# Altium schematic symbol library WE-LQFS.SchLib: 33 symbols
Pins are listed as number, name and electrical type; pins without a type are passive.

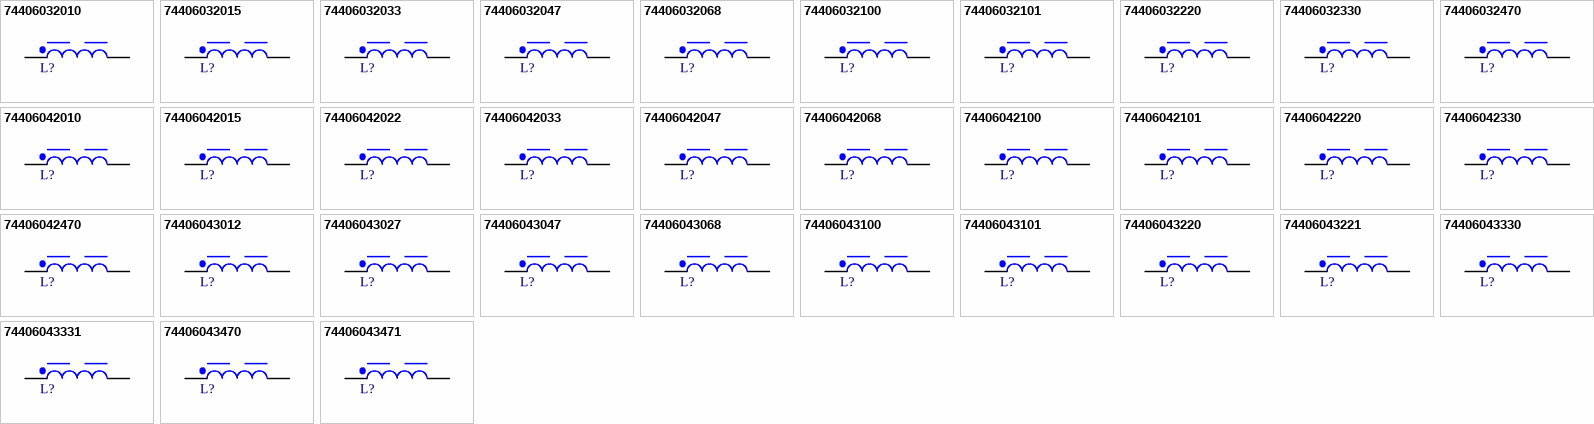
[diagram p0: symbols 74406032010 to 74406043471]

## 74406032010
designator L?, comment 1µH, 2.5A  (value not drawn)
WE-LQFS SMT Power Inductor, size 3818, 1µH, 2.5A, 31mΩ; Manufacturer Part Number: 74406032010; Manufacturer: Wurth Elektronik; Case/Size Code: 3818; DC Resistance: 26mΩ; Saturation Current: 2.15A; Self Resonant Frequency: 264MHz; Category: Shielded Power Inductors; Match Code: WE-LQFS; ComponentLink1Description: Website Link; ComponentLink1URL: https://www.we-online.com/redexpert/article/74406032010?ad; ComponentLink2Description: Datasheet Link; ComponentLink2URL: https://www.we-online.com/redexpert/spec/74406032010?ad; Mount: Surface Mount; Operating Temperature Max: 125°C; Operating Temperature Min: -40°C; Packaging: Tape and Reel; Length: 3.8mm; Width: 3.8mm; Height: 1.8mm; DC Resistance Max: 31mΩ; Inductance: 1µH; Rated Current: 2.5A
footprint WE-LQFS_3818
simulation model 3818_74406032010_1u
pins: 1, 2

## 74406032015
designator L?, comment 1.5µH, 2.25A  (value not drawn)
WE-LQFS SMT Power Inductor, size 3818, 1.5µH, 2.25A, 39mΩ; Manufacturer Part Number: 74406032015; Manufacturer: Wurth Elektronik; Case/Size Code: 3818; DC Resistance: 32mΩ; Saturation Current: 1.92A; Self Resonant Frequency: 215MHz; Category: Shielded Power Inductors; Match Code: WE-LQFS; ComponentLink1Description: Website Link; ComponentLink1URL: https://www.we-online.com/redexpert/article/74406032015?ad; ComponentLink2Description: Datasheet Link; ComponentLink2URL: https://www.we-online.com/redexpert/spec/74406032015?ad; Mount: Surface Mount; Operating Temperature Max: 125°C; Operating Temperature Min: -40°C; Packaging: Tape and Reel; Length: 3.8mm; Width: 3.8mm; Height: 1.8mm; DC Resistance Max: 39mΩ; Inductance: 1.5µH; Rated Current: 2.25A
footprint WE-LQFS_3818
simulation model 3818_74406032015_1.5u
pins: 1, 2

## 74406032033
designator L?, comment 3.3µH, 1.59A  (value not drawn)
WE-LQFS SMT Power Inductor, size 3818, 3.3µH, 1.59A, 77mΩ; Manufacturer Part Number: 74406032033; Manufacturer: Wurth Elektronik; Case/Size Code: 3818; DC Resistance: 64mΩ; Saturation Current: 1.31A; Self Resonant Frequency: 132MHz; Category: Shielded Power Inductors; Match Code: WE-LQFS; ComponentLink1Description: Website Link; ComponentLink1URL: https://www.we-online.com/redexpert/article/74406032033?ad; ComponentLink2Description: Datasheet Link; ComponentLink2URL: https://www.we-online.com/redexpert/spec/74406032033?ad; Mount: Surface Mount; Operating Temperature Max: 125°C; Operating Temperature Min: -40°C; Packaging: Tape and Reel; Length: 3.8mm; Width: 3.8mm; Height: 1.8mm; DC Resistance Max: 77mΩ; Inductance: 3.3µH; Rated Current: 1.59A
footprint WE-LQFS_3818
simulation model 3818_74406032033_3.3u
pins: 1, 2

## 74406032047
designator L?, comment 4.7µH, 1.36A  (value not drawn)
WE-LQFS SMT Power Inductor, size 3818, 4.7µH, 1.36A, 110mΩ; Manufacturer Part Number: 74406032047; Manufacturer: Wurth Elektronik; Case/Size Code: 3818; DC Resistance: 92mΩ; Saturation Current: 1.07A; Self Resonant Frequency: 99MHz; Category: Shielded Power Inductors; Match Code: WE-LQFS; ComponentLink1Description: Website Link; ComponentLink1URL: https://www.we-online.com/redexpert/article/74406032047?ad; ComponentLink2Description: Datasheet Link; ComponentLink2URL: https://www.we-online.com/redexpert/spec/74406032047?ad; Mount: Surface Mount; Operating Temperature Max: 125°C; Operating Temperature Min: -40°C; Packaging: Tape and Reel; Length: 3.8mm; Width: 3.8mm; Height: 1.8mm; DC Resistance Max: 110mΩ; Inductance: 4.7µH; Rated Current: 1.36A
footprint WE-LQFS_3818
simulation model 3818_74406032047_4.7u
pins: 1, 2

## 74406032068
designator L?, comment 6.8µH, 1.15A  (value not drawn)
WE-LQFS SMT Power Inductor, size 3818, 6.8µH, 1.15A, 153mΩ; Manufacturer Part Number: 74406032068; Manufacturer: Wurth Elektronik; Case/Size Code: 3818; DC Resistance: 127mΩ; Saturation Current: 0.88A; Self Resonant Frequency: 81MHz; Category: Shielded Power Inductors; Match Code: WE-LQFS; ComponentLink1Description: Website Link; ComponentLink1URL: https://www.we-online.com/redexpert/article/74406032068?ad; ComponentLink2Description: Datasheet Link; ComponentLink2URL: https://www.we-online.com/redexpert/spec/74406032068?ad; Mount: Surface Mount; Operating Temperature Max: 125°C; Operating Temperature Min: -40°C; Packaging: Tape and Reel; Length: 3.8mm; Width: 3.8mm; Height: 1.8mm; DC Resistance Max: 153mΩ; Inductance: 6.8µH; Rated Current: 1.15A
footprint WE-LQFS_3818
simulation model 3818_74406032068_6.8u
pins: 1, 2

## 74406032100
designator L?, comment 10µH, 0.94A  (value not drawn)
WE-LQFS SMT Power Inductor, size 3818, 10µH, 0.94A, 228mΩ; Manufacturer Part Number: 74406032100; Manufacturer: Wurth Elektronik; Case/Size Code: 3818; DC Resistance: 190mΩ; Saturation Current: 0.75A; Self Resonant Frequency: 66MHz; Category: Shielded Power Inductors; Match Code: WE-LQFS; ComponentLink1Description: Website Link; ComponentLink1URL: https://www.we-online.com/redexpert/article/74406032100?ad; ComponentLink2Description: Datasheet Link; ComponentLink2URL: https://www.we-online.com/redexpert/spec/74406032100?ad; Mount: Surface Mount; Operating Temperature Max: 125°C; Operating Temperature Min: -40°C; Packaging: Tape and Reel; Length: 3.8mm; Width: 3.8mm; Height: 1.8mm; DC Resistance Max: 228mΩ; Inductance: 10µH; Rated Current: 0.94A
footprint WE-LQFS_3818
simulation model 3818_74406032100_10u
pins: 1, 2

## 74406032101
designator L?, comment 100µH, 0.27A  (value not drawn)
WE-LQFS SMT Power Inductor, size 3818, 100µH, 0.27A, 2476mΩ; Manufacturer Part Number: 74406032101; Manufacturer: Wurth Elektronik; Case/Size Code: 3818; DC Resistance: 2064mΩ; Saturation Current: 0.22A; Self Resonant Frequency: 17MHz; Category: Shielded Power Inductors; Match Code: WE-LQFS; ComponentLink1Description: Website Link; ComponentLink1URL: https://www.we-online.com/redexpert/article/74406032101?ad; ComponentLink2Description: Datasheet Link; ComponentLink2URL: https://www.we-online.com/redexpert/spec/74406032101?ad; Mount: Surface Mount; Operating Temperature Max: 125°C; Operating Temperature Min: -40°C; Packaging: Tape and Reel; Length: 3.8mm; Width: 3.8mm; Height: 1.8mm; DC Resistance Max: 2476mΩ; Inductance: 100µH; Rated Current: 0.27A
footprint WE-LQFS_3818
simulation model 3818_74406032101_100u
pins: 1, 2

## 74406032220
designator L?, comment 22µH, 0.66A  (value not drawn)
WE-LQFS SMT Power Inductor, size 3818, 22µH, 0.66A, 481mΩ; Manufacturer Part Number: 74406032220; Manufacturer: Wurth Elektronik; Case/Size Code: 3818; DC Resistance: 401mΩ; Saturation Current: 0.46A; Self Resonant Frequency: 37MHz; Category: Shielded Power Inductors; Match Code: WE-LQFS; ComponentLink1Description: Website Link; ComponentLink1URL: https://www.we-online.com/redexpert/article/74406032220?ad; ComponentLink2Description: Datasheet Link; ComponentLink2URL: https://www.we-online.com/redexpert/spec/74406032220?ad; Mount: Surface Mount; Operating Temperature Max: 125°C; Operating Temperature Min: -40°C; Packaging: Tape and Reel; Length: 3.8mm; Width: 3.8mm; Height: 1.8mm; DC Resistance Max: 481mΩ; Inductance: 22µH; Rated Current: 0.66A
footprint WE-LQFS_3818
simulation model 3818_74406032220_22u
pins: 1, 2

## 74406032330
designator L?, comment 33µH, 0.54A  (value not drawn)
WE-LQFS SMT Power Inductor, size 3818, 33µH, 0.54A, 715mΩ; Manufacturer Part Number: 74406032330; Manufacturer: Wurth Elektronik; Case/Size Code: 3818; DC Resistance: 596mΩ; Saturation Current: 0.4A; Self Resonant Frequency: 30MHz; Category: Shielded Power Inductors; Match Code: WE-LQFS; ComponentLink1Description: Website Link; ComponentLink1URL: https://www.we-online.com/redexpert/article/74406032330?ad; ComponentLink2Description: Datasheet Link; ComponentLink2URL: https://www.we-online.com/redexpert/spec/74406032330?ad; Mount: Surface Mount; Operating Temperature Max: 125°C; Operating Temperature Min: -40°C; Packaging: Tape and Reel; Length: 3.8mm; Width: 3.8mm; Height: 1.8mm; DC Resistance Max: 715mΩ; Inductance: 33µH; Rated Current: 0.54A
footprint WE-LQFS_3818
simulation model 3818_74406032330_33u
pins: 1, 2

## 74406032470
designator L?, comment 47µH, 0.45A  (value not drawn)
WE-LQFS SMT Power Inductor, size 3818, 47µH, 0.45A, 1000mΩ; Manufacturer Part Number: 74406032470; Manufacturer: Wurth Elektronik; Case/Size Code: 3818; DC Resistance: 834mΩ; Saturation Current: 0.34A; Self Resonant Frequency: 25MHz; Category: Shielded Power Inductors; Match Code: WE-LQFS; ComponentLink1Description: Website Link; ComponentLink1URL: https://www.we-online.com/redexpert/article/74406032470?ad; ComponentLink2Description: Datasheet Link; ComponentLink2URL: https://www.we-online.com/redexpert/spec/74406032470?ad; Mount: Surface Mount; Operating Temperature Max: 125°C; Operating Temperature Min: -40°C; Packaging: Tape and Reel; Length: 3.8mm; Width: 3.8mm; Height: 1.8mm; DC Resistance Max: 1000mΩ; Inductance: 47µH; Rated Current: 0.45A
footprint WE-LQFS_3818
simulation model 3818_74406032470_47u
pins: 1, 2

## 74406042010
designator L?, comment 1µH, 4.47A  (value not drawn)
WE-LQFS SMT Power Inductor, size 4818, 1µH, 4.47A, 23mΩ; Manufacturer Part Number: 74406042010; Manufacturer: Wurth Elektronik; Case/Size Code: 4818; DC Resistance: 19mΩ; Saturation Current: 4.06A; Self Resonant Frequency: 237MHz; Category: Shielded Power Inductors; Match Code: WE-LQFS; ComponentLink1Description: Website Link; ComponentLink1URL: https://www.we-online.com/redexpert/article/74406042010?ad; ComponentLink2Description: Datasheet Link; ComponentLink2URL: https://www.we-online.com/redexpert/spec/74406042010?ad; Mount: Surface Mount; Operating Temperature Max: 125°C; Operating Temperature Min: -40°C; Packaging: Tape and Reel; Length: 4.8mm; Width: 4.8mm; Height: 1.8mm; DC Resistance Max: 23mΩ; Inductance: 1µH; Rated Current: 4.47A
footprint WE-LQFS_4818
simulation model 4818_74406042010_1u
pins: 1, 2

## 74406042015
designator L?, comment 1.5µH, 3.9A  (value not drawn)
WE-LQFS SMT Power Inductor, size 4818, 1.5µH, 3.9A, 30mΩ; Manufacturer Part Number: 74406042015; Manufacturer: Wurth Elektronik; Case/Size Code: 4818; DC Resistance: 25mΩ; Saturation Current: 3.08A; Self Resonant Frequency: 176MHz; Category: Shielded Power Inductors; Match Code: WE-LQFS; ComponentLink1Description: Website Link; ComponentLink1URL: https://www.we-online.com/redexpert/article/74406042015?ad; ComponentLink2Description: Datasheet Link; ComponentLink2URL: https://www.we-online.com/redexpert/spec/74406042015?ad; Mount: Surface Mount; Operating Temperature Max: 125°C; Operating Temperature Min: -40°C; Packaging: Tape and Reel; Length: 4.8mm; Width: 4.8mm; Height: 1.8mm; DC Resistance Max: 30mΩ; Inductance: 1.5µH; Rated Current: 3.9A
footprint WE-LQFS_4818
simulation model 4818_74406042015_1.5u
pins: 1, 2

## 74406042022
designator L?, comment 2.2µH, 3.36A  (value not drawn)
WE-LQFS SMT Power Inductor, size 4818, 2.2µH, 3.36A, 40mΩ; Manufacturer Part Number: 74406042022; Manufacturer: Wurth Elektronik; Case/Size Code: 4818; DC Resistance: 33mΩ; Saturation Current: 2.73A; Self Resonant Frequency: 132MHz; Category: Shielded Power Inductors; Match Code: WE-LQFS; ComponentLink1Description: Website Link; ComponentLink1URL: https://www.we-online.com/redexpert/article/74406042022?ad; ComponentLink2Description: Datasheet Link; ComponentLink2URL: https://www.we-online.com/redexpert/spec/74406042022?ad; Mount: Surface Mount; Operating Temperature Max: 125°C; Operating Temperature Min: -40°C; Packaging: Tape and Reel; Length: 4.8mm; Width: 4.8mm; Height: 1.8mm; DC Resistance Max: 40mΩ; Inductance: 2.2µH; Rated Current: 3.36A
footprint WE-LQFS_4818
simulation model 4818_74406042022_2.2u
pins: 1, 2

## 74406042033
designator L?, comment 3.3µH, 2.72A  (value not drawn)
WE-LQFS SMT Power Inductor, size 4818, 3.3µH, 2.72A, 61mΩ; Manufacturer Part Number: 74406042033; Manufacturer: Wurth Elektronik; Case/Size Code: 4818; DC Resistance: 51mΩ; Saturation Current: 2.12A; Self Resonant Frequency: 99MHz; Category: Shielded Power Inductors; Match Code: WE-LQFS; ComponentLink1Description: Website Link; ComponentLink1URL: https://www.we-online.com/redexpert/article/74406042033?ad; ComponentLink2Description: Datasheet Link; ComponentLink2URL: https://www.we-online.com/redexpert/spec/74406042033?ad; Mount: Surface Mount; Operating Temperature Max: 125°C; Operating Temperature Min: -40°C; Packaging: Tape and Reel; Length: 4.8mm; Width: 4.8mm; Height: 1.8mm; DC Resistance Max: 61mΩ; Inductance: 3.3µH; Rated Current: 2.72A
footprint WE-LQFS_4818
simulation model 4818_74406042033_3.3u
pins: 1, 2

## 74406042047
designator L?, comment 4.7µH, 2.39A  (value not drawn)
WE-LQFS SMT Power Inductor, size 4818, 4.7µH, 2.39A, 70mΩ; Manufacturer Part Number: 74406042047; Manufacturer: Wurth Elektronik; Case/Size Code: 4818; DC Resistance: 58mΩ; Saturation Current: 1.53A; Self Resonant Frequency: 89MHz; Category: Shielded Power Inductors; Match Code: WE-LQFS; ComponentLink1Description: Website Link; ComponentLink1URL: https://www.we-online.com/redexpert/article/74406042047?ad; ComponentLink2Description: Datasheet Link; ComponentLink2URL: https://www.we-online.com/redexpert/spec/74406042047?ad; Mount: Surface Mount; Operating Temperature Max: 125°C; Operating Temperature Min: -40°C; Packaging: Tape and Reel; Length: 4.8mm; Width: 4.8mm; Height: 1.8mm; DC Resistance Max: 70mΩ; Inductance: 4.7µH; Rated Current: 2.39A
footprint WE-LQFS_4818
simulation model 4818_74406042047_4.7u
pins: 1, 2

## 74406042068
designator L?, comment 6.8µH, 2.04A  (value not drawn)
WE-LQFS SMT Power Inductor, size 4818, 6.8µH, 2.04A, 97mΩ; Manufacturer Part Number: 74406042068; Manufacturer: Wurth Elektronik; Case/Size Code: 4818; DC Resistance: 81mΩ; Saturation Current: 1.26A; Self Resonant Frequency: 60MHz; Category: Shielded Power Inductors; Match Code: WE-LQFS; ComponentLink1Description: Website Link; ComponentLink1URL: https://www.we-online.com/redexpert/article/74406042068?ad; ComponentLink2Description: Datasheet Link; ComponentLink2URL: https://www.we-online.com/redexpert/spec/74406042068?ad; Mount: Surface Mount; Operating Temperature Max: 125°C; Operating Temperature Min: -40°C; Packaging: Tape and Reel; Length: 4.8mm; Width: 4.8mm; Height: 1.8mm; DC Resistance Max: 97mΩ; Inductance: 6.8µH; Rated Current: 2.04A
footprint WE-LQFS_4818
simulation model 4818_74406042068_6.8u
pins: 1, 2

## 74406042100
designator L?, comment 10µH, 1.61A  (value not drawn)
WE-LQFS SMT Power Inductor, size 4818, 10µH, 1.61A, 133mΩ; Manufacturer Part Number: 74406042100; Manufacturer: Wurth Elektronik; Case/Size Code: 4818; DC Resistance: 111mΩ; Saturation Current: 1.1A; Self Resonant Frequency: 45MHz; Category: Shielded Power Inductors; Match Code: WE-LQFS; ComponentLink1Description: Website Link; ComponentLink1URL: https://www.we-online.com/redexpert/article/74406042100?ad; ComponentLink2Description: Datasheet Link; ComponentLink2URL: https://www.we-online.com/redexpert/spec/74406042100?ad; Mount: Surface Mount; Operating Temperature Max: 125°C; Operating Temperature Min: -40°C; Packaging: Tape and Reel; Length: 4.8mm; Width: 4.8mm; Height: 1.8mm; DC Resistance Max: 133mΩ; Inductance: 10µH; Rated Current: 1.61A
footprint WE-LQFS_4818
simulation model 4818_74406042100_10u
pins: 1, 2

## 74406042101
designator L?, comment 100µH, 0.42A  (value not drawn)
WE-LQFS SMT Power Inductor, size 4818, 100µH, 0.42A, 1386mΩ; Manufacturer Part Number: 74406042101; Manufacturer: Wurth Elektronik; Case/Size Code: 4818; DC Resistance: 1155mΩ; Saturation Current: 0.32A; Self Resonant Frequency: 15MHz; Category: Shielded Power Inductors; Match Code: WE-LQFS; ComponentLink1Description: Website Link; ComponentLink1URL: https://www.we-online.com/redexpert/article/74406042101?ad; ComponentLink2Description: Datasheet Link; ComponentLink2URL: https://www.we-online.com/redexpert/spec/74406042101?ad; Mount: Surface Mount; Operating Temperature Max: 125°C; Operating Temperature Min: -40°C; Packaging: Tape and Reel; Length: 4.8mm; Width: 4.8mm; Height: 1.8mm; DC Resistance Max: 1386mΩ; Inductance: 100µH; Rated Current: 0.42A
footprint WE-LQFS_4818
simulation model 4818_74406042101_100u
pins: 1, 2

## 74406042220
designator L?, comment 22µH, 1A  (value not drawn)
WE-LQFS SMT Power Inductor, size 4818, 22µH, 1A, 339mΩ; Manufacturer Part Number: 74406042220; Manufacturer: Wurth Elektronik; Case/Size Code: 4818; DC Resistance: 283mΩ; Saturation Current: 0.68A; Self Resonant Frequency: 30MHz; Category: Shielded Power Inductors; Match Code: WE-LQFS; ComponentLink1Description: Website Link; ComponentLink1URL: https://www.we-online.com/redexpert/article/74406042220?ad; ComponentLink2Description: Datasheet Link; ComponentLink2URL: https://www.we-online.com/redexpert/spec/74406042220?ad; Mount: Surface Mount; Operating Temperature Max: 125°C; Operating Temperature Min: -40°C; Packaging: Tape and Reel; Length: 4.8mm; Width: 4.8mm; Height: 1.8mm; DC Resistance Max: 339mΩ; Inductance: 22µH; Rated Current: 1A
footprint WE-LQFS_4818
simulation model 4818_74406042220_22u
pins: 1, 2

## 74406042330
designator L?, comment 33µH, 0.83A  (value not drawn)
WE-LQFS SMT Power Inductor, size 4818, 33µH, 0.83A, 488mΩ; Manufacturer Part Number: 74406042330; Manufacturer: Wurth Elektronik; Case/Size Code: 4818; DC Resistance: 407mΩ; Saturation Current: 0.58A; Self Resonant Frequency: 25MHz; Category: Shielded Power Inductors; Match Code: WE-LQFS; ComponentLink1Description: Website Link; ComponentLink1URL: https://www.we-online.com/redexpert/article/74406042330?ad; ComponentLink2Description: Datasheet Link; ComponentLink2URL: https://www.we-online.com/redexpert/spec/74406042330?ad; Mount: Surface Mount; Operating Temperature Max: 125°C; Operating Temperature Min: -40°C; Packaging: Tape and Reel; Length: 4.8mm; Width: 4.8mm; Height: 1.8mm; DC Resistance Max: 488mΩ; Inductance: 33µH; Rated Current: 0.83A
footprint WE-LQFS_4818
simulation model 4818_74406042330_33u
pins: 1, 2

## 74406042470
designator L?, comment 47µH, 0.63A  (value not drawn)
WE-LQFS SMT Power Inductor, size 4818, 47µH, 0.63A, 627mΩ; Manufacturer Part Number: 74406042470; Manufacturer: Wurth Elektronik; Case/Size Code: 4818; DC Resistance: 523mΩ; Saturation Current: 0.47A; Self Resonant Frequency: 20MHz; Category: Shielded Power Inductors; Match Code: WE-LQFS; ComponentLink1Description: Website Link; ComponentLink1URL: https://www.we-online.com/redexpert/article/74406042470?ad; ComponentLink2Description: Datasheet Link; ComponentLink2URL: https://www.we-online.com/redexpert/spec/74406042470?ad; Mount: Surface Mount; Operating Temperature Max: 125°C; Operating Temperature Min: -40°C; Packaging: Tape and Reel; Length: 4.8mm; Width: 4.8mm; Height: 1.8mm; DC Resistance Max: 627mΩ; Inductance: 47µH; Rated Current: 0.63A
footprint WE-LQFS_4818
simulation model 4818_74406042470_47u
pins: 1, 2

## 74406043012
designator L?, comment 1.2µH, 3.61A  (value not drawn)
WE-LQFS SMT Power Inductor, size 4828, 1.2µH, 3.61A, 21mΩ; Manufacturer Part Number: 74406043012; Manufacturer: Wurth Elektronik; Case/Size Code: 4828; DC Resistance: 18mΩ; Saturation Current: 3.06A; Self Resonant Frequency: 237MHz; Category: Shielded Power Inductors; Match Code: WE-LQFS; ComponentLink1Description: Website Link; ComponentLink1URL: https://www.we-online.com/redexpert/article/74406043012?ad; ComponentLink2Description: Datasheet Link; ComponentLink2URL: https://www.we-online.com/redexpert/spec/74406043012?ad; Mount: Surface Mount; Operating Temperature Max: 125°C; Operating Temperature Min: -40°C; Packaging: Tape and Reel; Length: 4.8mm; Width: 4.8mm; Height: 2.8mm; DC Resistance Max: 21mΩ; Inductance: 1.2µH; Rated Current: 3.61A
footprint WE-LQFS_4828
simulation model 4828_74406043012_1.2u
pins: 1, 2

## 74406043027
designator L?, comment 2.7µH, 2.93A  (value not drawn)
WE-LQFS SMT Power Inductor, size 4828, 2.7µH, 2.93A, 32mΩ; Manufacturer Part Number: 74406043027; Manufacturer: Wurth Elektronik; Case/Size Code: 4828; DC Resistance: 27mΩ; Saturation Current: 2.07A; Self Resonant Frequency: 119MHz; Category: Shielded Power Inductors; Match Code: WE-LQFS; ComponentLink1Description: Website Link; ComponentLink1URL: https://www.we-online.com/redexpert/article/74406043027?ad; ComponentLink2Description: Datasheet Link; ComponentLink2URL: https://www.we-online.com/redexpert/spec/74406043027?ad; Mount: Surface Mount; Operating Temperature Max: 125°C; Operating Temperature Min: -40°C; Packaging: Tape and Reel; Length: 4.8mm; Width: 4.8mm; Height: 2.8mm; DC Resistance Max: 32mΩ; Inductance: 2.7µH; Rated Current: 2.93A
footprint WE-LQFS_4828
simulation model 4828_74406043027_2.7u
pins: 1, 2

## 74406043047
designator L?, comment 4.7µH, 2.3A  (value not drawn)
WE-LQFS SMT Power Inductor, size 4828, 4.7µH, 2.3A, 51mΩ; Manufacturer Part Number: 74406043047; Manufacturer: Wurth Elektronik; Case/Size Code: 4828; DC Resistance: 42mΩ; Saturation Current: 1.62A; Self Resonant Frequency: 81MHz; Category: Shielded Power Inductors; Match Code: WE-LQFS; ComponentLink1Description: Website Link; ComponentLink1URL: https://www.we-online.com/redexpert/article/74406043047?ad; ComponentLink2Description: Datasheet Link; ComponentLink2URL: https://www.we-online.com/redexpert/spec/74406043047?ad; Mount: Surface Mount; Operating Temperature Max: 125°C; Operating Temperature Min: -40°C; Packaging: Tape and Reel; Length: 4.8mm; Width: 4.8mm; Height: 2.8mm; DC Resistance Max: 51mΩ; Inductance: 4.7µH; Rated Current: 2.3A
footprint WE-LQFS_4828
simulation model 4828_74406043047_4.7u
pins: 1, 2

## 74406043068
designator L?, comment 6.8µH, 2.05A  (value not drawn)
WE-LQFS SMT Power Inductor, size 4828, 6.8µH, 2.05A, 64mΩ; Manufacturer Part Number: 74406043068; Manufacturer: Wurth Elektronik; Case/Size Code: 4828; DC Resistance: 53mΩ; Saturation Current: 1.52A; Self Resonant Frequency: 66MHz; Category: Shielded Power Inductors; Match Code: WE-LQFS; ComponentLink1Description: Website Link; ComponentLink1URL: https://www.we-online.com/redexpert/article/74406043068?ad; ComponentLink2Description: Datasheet Link; ComponentLink2URL: https://www.we-online.com/redexpert/spec/74406043068?ad; Mount: Surface Mount; Operating Temperature Max: 125°C; Operating Temperature Min: -40°C; Packaging: Tape and Reel; Length: 4.8mm; Width: 4.8mm; Height: 2.8mm; DC Resistance Max: 64mΩ; Inductance: 6.8µH; Rated Current: 2.05A
footprint WE-LQFS_4828
simulation model 4828_74406043068_6.8u
pins: 1, 2

## 74406043100
designator L?, comment 10µH, 1.77A  (value not drawn)
WE-LQFS SMT Power Inductor, size 4828, 10µH, 1.77A, 86mΩ; Manufacturer Part Number: 74406043100; Manufacturer: Wurth Elektronik; Case/Size Code: 4828; DC Resistance: 72mΩ; Saturation Current: 1.22A; Self Resonant Frequency: 45MHz; Category: Shielded Power Inductors; Match Code: WE-LQFS; ComponentLink1Description: Website Link; ComponentLink1URL: https://www.we-online.com/redexpert/article/74406043100?ad; ComponentLink2Description: Datasheet Link; ComponentLink2URL: https://www.we-online.com/redexpert/spec/74406043100?ad; Mount: Surface Mount; Operating Temperature Max: 125°C; Operating Temperature Min: -40°C; Packaging: Tape and Reel; Length: 4.8mm; Width: 4.8mm; Height: 2.8mm; DC Resistance Max: 86mΩ; Inductance: 10µH; Rated Current: 1.77A
footprint WE-LQFS_4828
simulation model 4828_74406043100_10u
pins: 1, 2

## 74406043101
designator L?, comment 100µH, 0.62A  (value not drawn)
WE-LQFS SMT Power Inductor, size 4828, 100µH, 0.62A, 600mΩ; Manufacturer Part Number: 74406043101; Manufacturer: Wurth Elektronik; Case/Size Code: 4828; DC Resistance: 500mΩ; Saturation Current: 0.37A; Self Resonant Frequency: 11MHz; Category: Shielded Power Inductors; Match Code: WE-LQFS; ComponentLink1Description: Website Link; ComponentLink1URL: https://www.we-online.com/redexpert/article/74406043101?ad; ComponentLink2Description: Datasheet Link; ComponentLink2URL: https://www.we-online.com/redexpert/spec/74406043101?ad; Mount: Surface Mount; Operating Temperature Max: 125°C; Operating Temperature Min: -40°C; Packaging: Tape and Reel; Length: 4.8mm; Width: 4.8mm; Height: 2.8mm; DC Resistance Max: 600mΩ; Inductance: 100µH; Rated Current: 0.62A
footprint WE-LQFS_4828
simulation model 4828_74406043101_100u
pins: 1, 2

## 74406043220
designator L?, comment 22µH, 1.23A  (value not drawn)
WE-LQFS SMT Power Inductor, size 4828, 22µH, 1.23A, 172mΩ; Manufacturer Part Number: 74406043220; Manufacturer: Wurth Elektronik; Case/Size Code: 4828; DC Resistance: 143mΩ; Saturation Current: 0.77A; Self Resonant Frequency: 25MHz; Category: Shielded Power Inductors; Match Code: WE-LQFS; ComponentLink1Description: Website Link; ComponentLink1URL: https://www.we-online.com/redexpert/article/74406043220?ad; ComponentLink2Description: Datasheet Link; ComponentLink2URL: https://www.we-online.com/redexpert/spec/74406043220?ad; Mount: Surface Mount; Operating Temperature Max: 125°C; Operating Temperature Min: -40°C; Packaging: Tape and Reel; Length: 4.8mm; Width: 4.8mm; Height: 2.8mm; DC Resistance Max: 172mΩ; Inductance: 22µH; Rated Current: 1.23A
footprint WE-LQFS_4828
simulation model 4828_74406043220_22u
pins: 1, 2

## 74406043221
designator L?, comment 220µH, 0.4A  (value not drawn)
WE-LQFS SMT Power Inductor, size 4828, 220µH, 0.4A, 1326mΩ; Manufacturer Part Number: 74406043221; Manufacturer: Wurth Elektronik; Case/Size Code: 4828; DC Resistance: 1105mΩ; Saturation Current: 0.26A; Self Resonant Frequency: 7MHz; Category: Shielded Power Inductors; Match Code: WE-LQFS; ComponentLink1Description: Website Link; ComponentLink1URL: https://www.we-online.com/redexpert/article/74406043221?ad; ComponentLink2Description: Datasheet Link; ComponentLink2URL: https://www.we-online.com/redexpert/spec/74406043221?ad; Mount: Surface Mount; Operating Temperature Max: 125°C; Operating Temperature Min: -40°C; Packaging: Tape and Reel; Length: 4.8mm; Width: 4.8mm; Height: 2.8mm; DC Resistance Max: 1326mΩ; Inductance: 220µH; Rated Current: 0.4A
footprint WE-LQFS_4828
simulation model 4828_74406043221_220u
pins: 1, 2

## 74406043330
designator L?, comment 33µH, 0.99A  (value not drawn)
WE-LQFS SMT Power Inductor, size 4828, 33µH, 0.99A, 251mΩ; Manufacturer Part Number: 74406043330; Manufacturer: Wurth Elektronik; Case/Size Code: 4828; DC Resistance: 209mΩ; Saturation Current: 0.64A; Self Resonant Frequency: 20MHz; Category: Shielded Power Inductors; Match Code: WE-LQFS; ComponentLink1Description: Website Link; ComponentLink1URL: https://www.we-online.com/redexpert/article/74406043330?ad; ComponentLink2Description: Datasheet Link; ComponentLink2URL: https://www.we-online.com/redexpert/spec/74406043330?ad; Mount: Surface Mount; Operating Temperature Max: 125°C; Operating Temperature Min: -40°C; Packaging: Tape and Reel; Length: 4.8mm; Width: 4.8mm; Height: 2.8mm; DC Resistance Max: 251mΩ; Inductance: 33µH; Rated Current: 0.99A
footprint WE-LQFS_4828
simulation model 4828_74406043330_33u
pins: 1, 2

## 74406043331
designator L?, comment 330µH, 0.34A  (value not drawn)
WE-LQFS SMT Power Inductor, size 4828, 330µH, 0.34A, 1864mΩ; Manufacturer Part Number: 74406043331; Manufacturer: Wurth Elektronik; Case/Size Code: 4828; DC Resistance: 1554mΩ; Saturation Current: 0.22A; Self Resonant Frequency: 5.8MHz; Category: Shielded Power Inductors; Match Code: WE-LQFS; ComponentLink1Description: Website Link; ComponentLink1URL: https://www.we-online.com/redexpert/article/74406043331?ad; ComponentLink2Description: Datasheet Link; ComponentLink2URL: https://www.we-online.com/redexpert/spec/74406043331?ad; Mount: Surface Mount; Operating Temperature Max: 125°C; Operating Temperature Min: -40°C; Packaging: Tape and Reel; Length: 4.8mm; Width: 4.8mm; Height: 2.8mm; DC Resistance Max: 1864mΩ; Inductance: 330µH; Rated Current: 0.34A
footprint WE-LQFS_4828
simulation model 4828_74406043331_330u
pins: 1, 2

## 74406043470
designator L?, comment 47µH, 0.97A  (value not drawn)
WE-LQFS SMT Power Inductor, size 4828, 47µH, 0.97A, 260mΩ; Manufacturer Part Number: 74406043470; Manufacturer: Wurth Elektronik; Case/Size Code: 4828; DC Resistance: 216mΩ; Saturation Current: 0.56A; Self Resonant Frequency: 17MHz; Category: Shielded Power Inductors; Match Code: WE-LQFS; ComponentLink1Description: Website Link; ComponentLink1URL: https://www.we-online.com/redexpert/article/74406043470?ad; ComponentLink2Description: Datasheet Link; ComponentLink2URL: https://www.we-online.com/redexpert/spec/74406043470?ad; Mount: Surface Mount; Operating Temperature Max: 125°C; Operating Temperature Min: -40°C; Packaging: Tape and Reel; Length: 4.8mm; Width: 4.8mm; Height: 2.8mm; DC Resistance Max: 260mΩ; Inductance: 47µH; Rated Current: 0.97A
footprint WE-LQFS_4828
simulation model 4828_74406043470_47u
pins: 1, 2

## 74406043471
designator L?, comment 470µH, 0.26A  (value not drawn)
WE-LQFS SMT Power Inductor, size 4828, 470µH, 0.26A, 2803mΩ; Manufacturer Part Number: 74406043471; Manufacturer: Wurth Elektronik; Case/Size Code: 4828; DC Resistance: 2336mΩ; Saturation Current: 0.18A; Self Resonant Frequency: 4.7MHz; Category: Shielded Power Inductors; Match Code: WE-LQFS; ComponentLink1Description: Website Link; ComponentLink1URL: https://www.we-online.com/redexpert/article/74406043471?ad; ComponentLink2Description: Datasheet Link; ComponentLink2URL: https://www.we-online.com/redexpert/spec/74406043471?ad; Mount: Surface Mount; Operating Temperature Max: 125°C; Operating Temperature Min: -40°C; Packaging: Tape and Reel; Length: 4.8mm; Width: 4.8mm; Height: 2.8mm; DC Resistance Max: 2803mΩ; Inductance: 470µH; Rated Current: 0.26A
footprint WE-LQFS_4828
simulation model 4828_74406043471_470u
pins: 1, 2